# Altium integrated library ESP32-DEVKITC-32UE.IntLib: 1 symbol
Pins are listed as number, name and electrical type; pins without a type are passive.

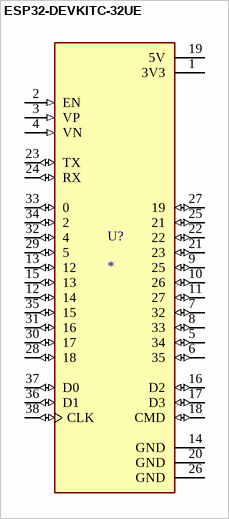
[diagram p0: symbol ESP32-DEVKITC-32UE]

## ESP32-DEVKITC-32UE
designator U?
The ESP32-DEVKITC-32UE evaluation board from Espressif Systems is designed for seamless wireless connectivity in IoT applications. Powered by the ESP32-WROOM-32UE module, it supports dual-mode BluetoothÂ® Smart Ready 4.x and 802.11 b/g/n Wi-Fi at 2.4GHz.; SnapEDA_Link: https://www.snapeda.com/parts/ESP32-DEVKITC-32UE/Espressif+Systems/view-part/?ref=snap; Package: CUSTOM-38 ESPRESSIF; Value: *; MF: Espressif Systems; MP: ESP32-DEVKITC-32UE; Check_prices: https://www.snapeda.com/parts/ESP32-DEVKITC-32UE/Espressif+Systems/view-part/?ref=eda
footprint ESPRESSIF_ESP32-DEVKITC-32UE
pins: 1 3V3 (power), 2 EN (in), 3 VP (in), 4 VN (in), 5 34 (io), 6 35 (io), 7 32 (io), 8 33 (io), 9 25 (io), 10 26 (io), 11 27 (io), 12 14 (io), 13 12 (io), 14 GND (power), 15 13 (io), 16 D2 (io), 17 D3 (io), 18 CMD (io), 19 5V (power), 20 GND (power), 21 23 (io), 22 (io), 23 TX (io), 24 RX (io), 25 21 (io), 26 GND (power), 27 19 (io), 28 18 (io), 29 5 (io), 30 17 (io), 31 16 (io), 32 4 (io), 33 0 (io), 34 2 (io), 35 15 (io), 36 D1 (io), 37 D0 (io), 38 CLK (io)